# EAGLE library part LTC3108-SSOP (library wa7iut)
LTC3108 in16 pin SSOP Narrow GN Package
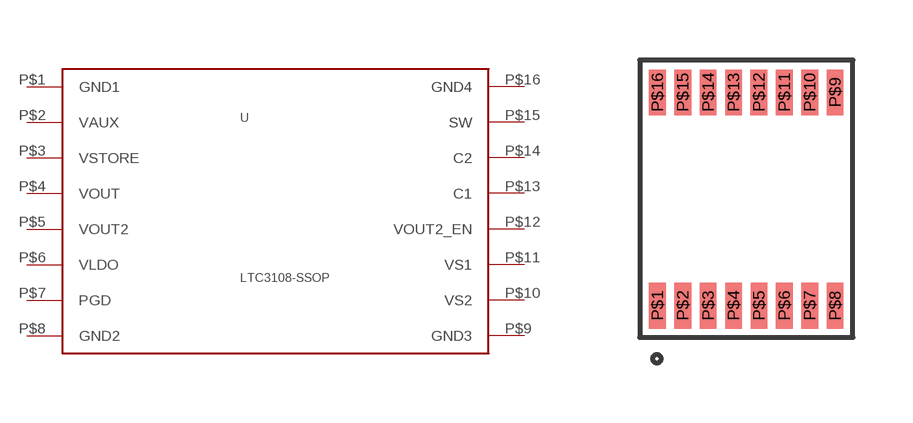
[diagram p4: symbol with the pads of SSOP-GN-16; footprint SSOP-GN-16]

Designator prefix -

## LTC3108-SSOP  [SSOP-GN-16]
P$1  GND1
P$2  VAUX
P$3  VSTORE
P$4  VOUT
P$5  VOUT2
P$6  VLDO
P$7  PGD
P$8  GND2
P$9  GND3
P$10  VS2
P$11  VS1
P$12  VOUT2_EN
P$13  C1
P$14  C2
P$15  SW
P$16  GND4

## Footprint SSOP-GN-16 (pad centres in mm)
smd 0.419 x 1.143: P$1 -2.222,-2.662; P$2 -1.587,-2.662; P$3 -0.952,-2.662; P$4 -0.317,-2.662; P$5 0.318,-2.662; P$6 0.953,-2.662; P$7 1.588,-2.662; P$8 2.223,-2.662; P$9 2.223,2.67; P$10 1.587,2.67; P$11 0.953,2.67; P$12 0.318,2.67; P$13 -0.318,2.67; P$14 -0.953,2.67; P$15 -1.587,2.67; P$16 -2.223,2.67